# Altium schematic symbol library Ad_Hoc_Parts.SchLib: 2 symbols
Pins are listed as number, name and electrical type; pins without a type are passive.

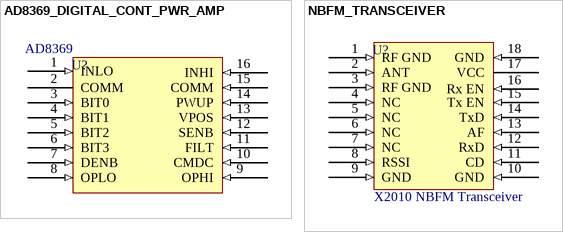
[diagram p0: symbols AD8369_DIGITAL_CONT_PWR_AMP to NBFM_TRANSCEIVER]

## AD8369_DIGITAL_CONT_PWR_AMP
designator U?, comment AD8369
footprint TSSOP16_RU-16
pins: 1 INLO (in), 2 COMM (power), 3 BIT0 (in), 4 BIT1 (in), 5 BIT2 (in), 6 BIT3 (in), 7 DENB (in), 8 OPLO (in), 9 OPHI (in), 10 CMDC (in), 11 FILT (in), 12 SENB (in), 13 VPOS (in), 14 PWUP (in), 15 COMM (in), 16 INHI (in)

## NBFM_TRANSCEIVER
designator U?, comment X2010 NBFM Transceiver
footprint X2010
pins: 1 RF GND (in), 2 ANT (in), 3 RF GND (in), 4 NC (in), 5 NC (in), 6 NC (in), 7 NC (in), 8 RSSI (in), 9 GND (in), 10 GND (in), 11 CD (in), 12 RxD (in), 13 AF (in), 14 TxD (in), 15 Tx EN (in), 16 Rx EN (in), 17 VCC (power), 18 GND (in)